# Altium footprint library 3-338168-2.PcbLib: 1 footprints
Each footprint in its own frame and in the unit in brackets; x right, y up, seen from the top. Pads: shape width x height; smd on the part's side, far side on the other; paste and mask are expansions set on the pad; w line width, h text height; cw(c..) or ccw(c..) is an arc to the next point about the centre after c.
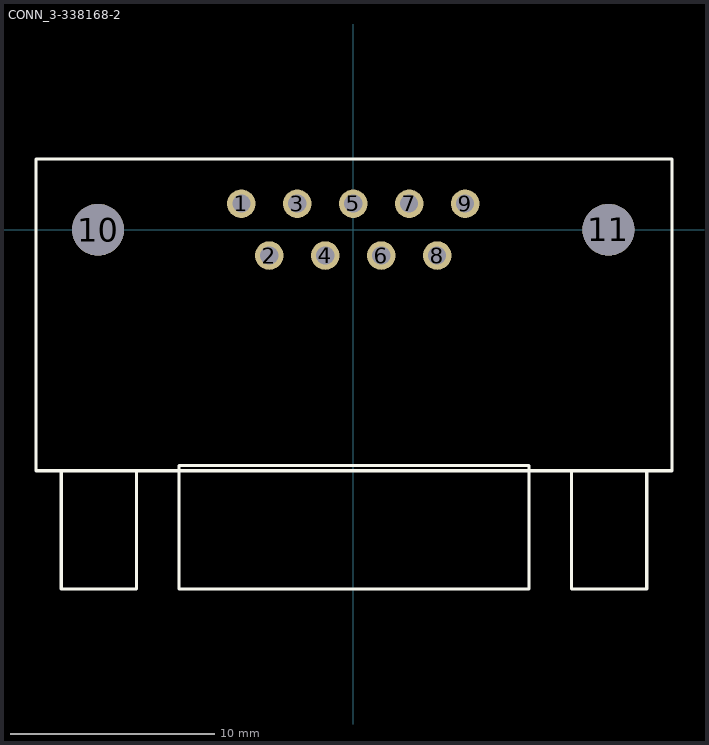
[diagram p0: the footprint, top view; thin cyan lines are the x and y axes]

## CONN_3-338168-2 [mil]
pads (11):
  round 55 hole 35: 1(-215.75,50) 2(-161.81,-50) 3(-107.87,50) 4(-53.94,-50) 5(0,50) 6(53.94,-50) 7(107.87,50) 8(161.81,-50) 9(215.75,50)
  round 100 hole 100: 10(-492,-0.31) 11(492,-0.31)
Top Overlay:
  lines w6: -563,-464.92 -563,-692.92 -418,-692.92 -418,-464.92 ; 421,-464.92 421,-692.92 566,-692.92 566,-464.92 ; -612,-464.92 -612,136.08 615,136.08 615,-464.92 -612,-464.92 ; -336,-692.92 -336,-454.92 339,-454.92 339,-692.92 -336,-692.92
3D body "c-3-338168-2-g-3d.stp": height 107.32, standoff -554.09, extent -611.26,-705.19 612.76,133.39